# EAGLE library part TL082CP-BLC (library chua)
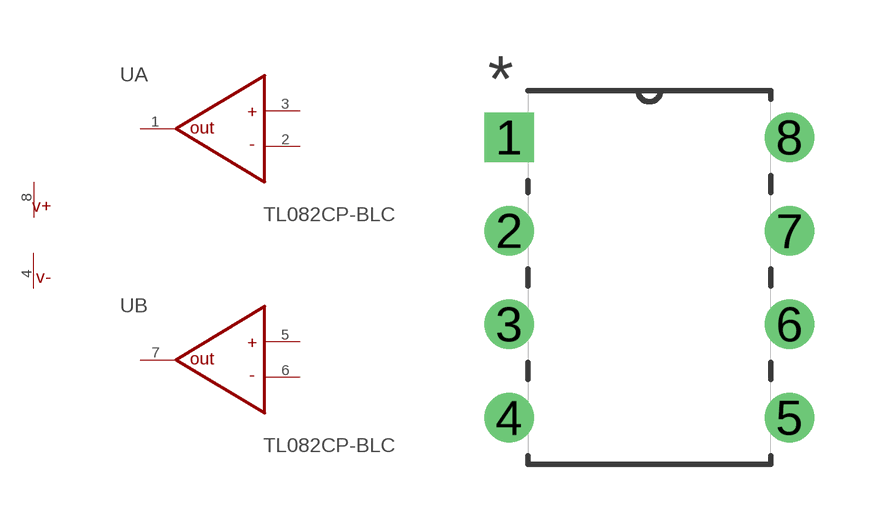
[diagram p2: symbol with the pads of DIP254P762X508-8; footprint DIP254P762X508-8]

Designator prefix -; gates A=TL082CP-BLOCKS B=TL082CP-BLOCKS C=TL082CP-PWR

## TL082CP-BLC  [DIP254P762X508-8]
1  A:OUT
2  A:-
3  A:+
4  C:P$2  pwr
5  B:+
6  B:-
7  B:OUT
8  C:P$1  pwr

## Footprint DIP254P762X508-8 (pad centres in mm)
drill 0.838 square: 1 -7.62,7.62
drill 0.838: 2 -7.62,5.08; 3 -7.62,2.54; 4 -7.62,0; 5 0,0; 6 0,2.54; 7 0,5.08; 8 0,7.62